# Altium schematic symbol library ECHU1H223GX5.SchLib: 2 symbols
Pins are listed as number, name and electrical type; pins without a type are passive.

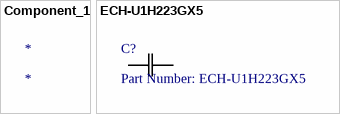
[diagram p0: symbols Component_1 to ECH-U1H223GX5]

## Component_1
designator *

## ECH-U1H223GX5
designator C?, comment Part Number: ECH-U1H223GX5
No Description Available; Vendor: Panasonic; Built_By: EMA_UL_Team; Type: DEV; Manufacturer_Part_Number: ECH-U1H223GX5; Copyright: Copyright (C) 2018 Accelerated Designs. All rights reserved; RefDes: RefDes; Value: Value
footprint CAP_G2
pins: 1, 2